# EAGLE library part USB (library custom_parts)
usb connector
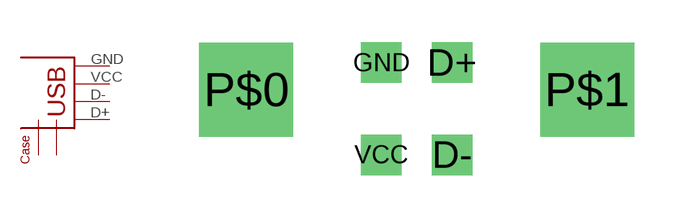
[diagram p2: symbol with the pads of M701-330442; footprint M701-330442]

Designator prefix -

## USB  [M701-330442]
D+  D+
D-  D-
GND  GND
P$0  CASE1V
P$1  CASE2
VCC  VBUS

## Footprint M701-330442 (pad centres in mm)
Vertical USB Standard B Connector from http://www.mouser.com/ProductDetail/Harwin/M701-330442/?qs=x6EjVpvqMVOIQFAB0splYQ%3d%3d (drawings at http://www.harwin.com/include/downloads/drawings/M701-330442.PDF)
drill 0.92 square: D+ 1.25,1.625; D- 1.25,-1.625; GND -1.25,1.625; VCC -1.25,-1.625
drill 2.3 square: P$0 -6.02,0.675; P$1 6.02,0.675